# EAGLE library part JTAG-AVR (library karlnet-parts)
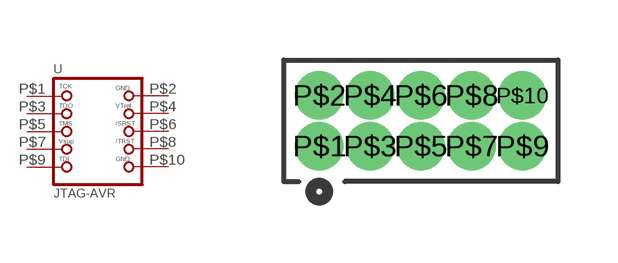
[diagram p10: symbol with the pads of 2X10-50MIL-JTAG; footprint 2X10-50MIL-JTAG]

Designator prefix -

## JTAG-AVR  [2X10-50MIL-JTAG]
P$1  1  pas
P$2  2  pas
P$3  3  pas
P$4  4  pas
P$5  5  pas
P$6  6  pas
P$7  7  pas
P$8  8  pas
P$9  9  pas
P$10  10  pas

## Footprint 2X10-50MIL-JTAG (pad centres in mm)
2x5 50mil (1.27mm) AVR-JTAG pinout Should also work for cortex debug, same size, but different pinout
drill 0.7 pad 1 round: P$1 0,0; P$2 0,1.27; P$3 1.27,0; P$4 1.27,1.27; P$5 2.54,0; P$6 2.54,1.27; P$7 3.81,0; P$8 3.81,1.27; P$9 5.08,0; P$10 5.08,1.27